# EAGLE library part 1190365 (library 1190365)
Fixed Terminal Blocks LPTA 2,5/ 4-5,0 Source: Datasheet <http://www.phoenixcontact.net/product/1190365>
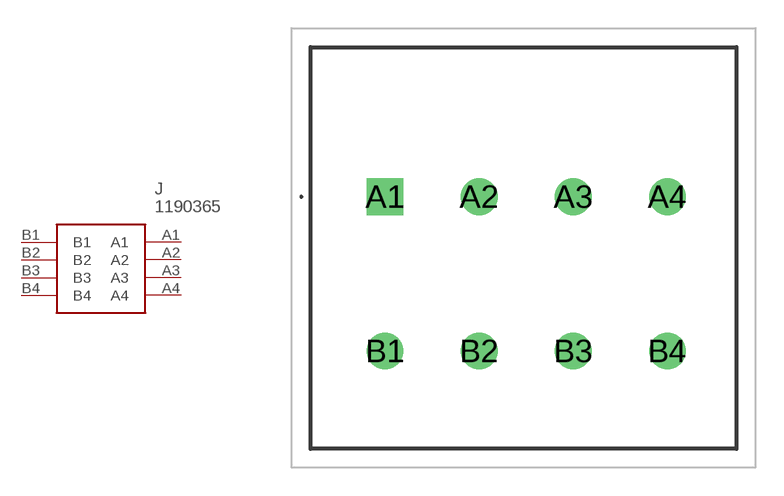
[diagram p0: symbol with the pads of 1190365; footprint 1190365]

Designator prefix J

## 1190365 (Description: Fixed Terminal Blocks LPTA 2,5/ 4-5,0; Height: 22.65mm; Manufacturer_Name: Phoenix Contact; Manufacturer_Part_Number: 1190365; Mouser_Part_Number: 651-1190365; Mouser_Price-Stock: https://www.mouser.co.uk/ProductDetail/Phoenix-Contact/1190365?qs=QNEnbhJQKvbYhaie4VzA2g%3D%3D)  [1190365]
A1  A1
A2  A2
A3  A3
A4  A4
B1  B1
B2  B2
B3  B3
B4  B4

## Footprint 1190365 (pad centres in mm)
1190365-2
drill 1.3 pad 1.95 square: A1 0,0
drill 1.3 pad 1.95: A2 5,0; A3 10,0; A4 15,0; B1 0,-8.2; B2 5,-8.2; B3 10,-8.2; B4 15,-8.2